# Altium schematic symbol library 生日礼物V2.SchLib: 21 symbols
Pins are listed as number, name and electrical type; pins without a type are passive.

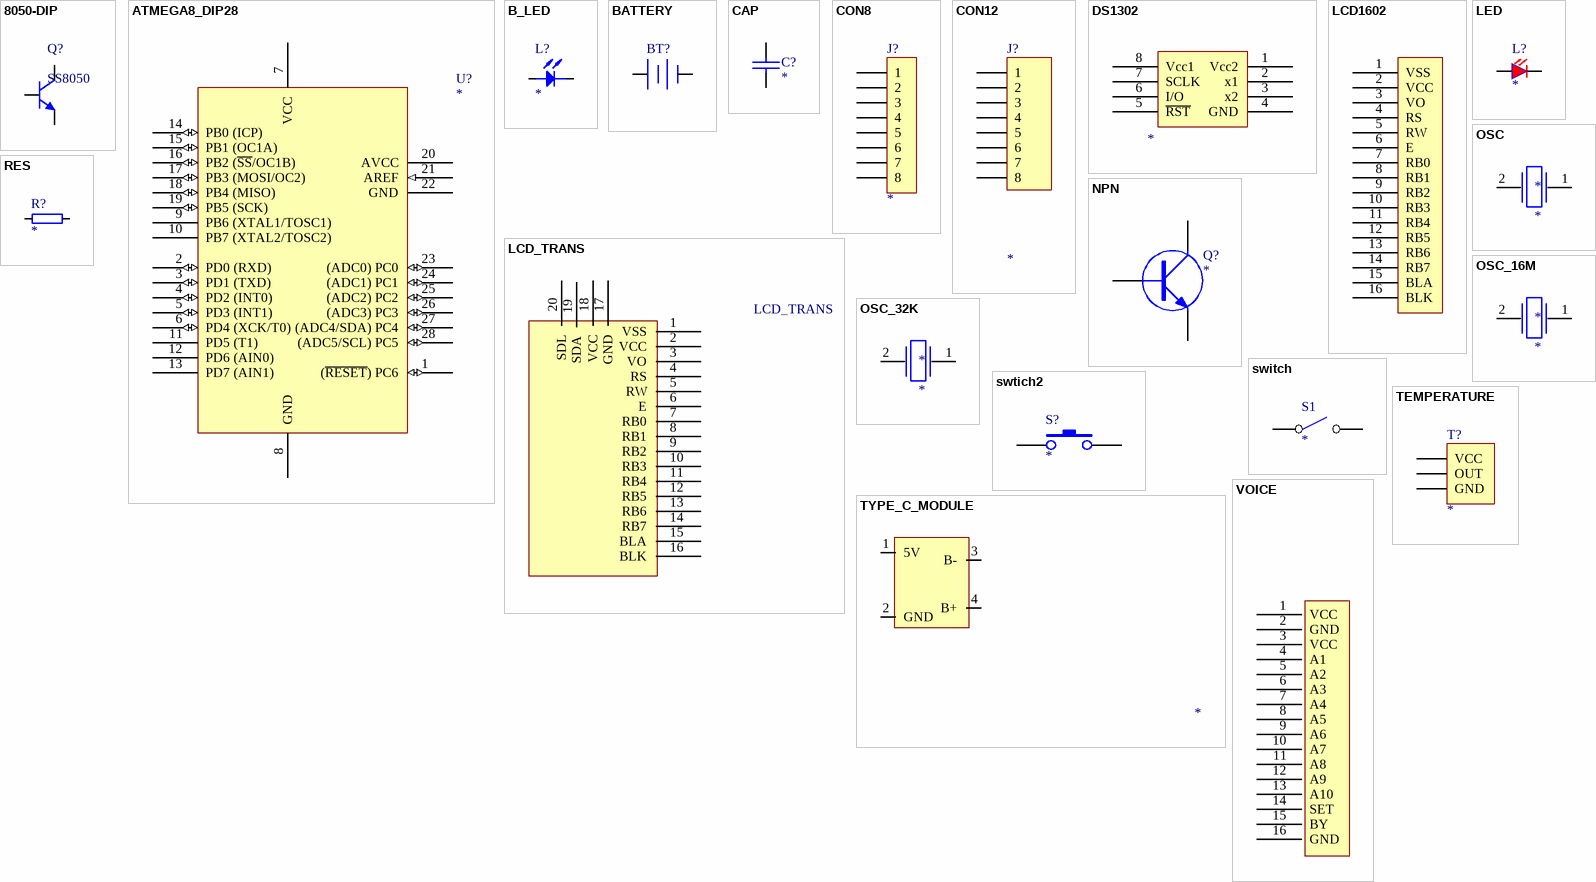
[diagram p0: symbols 8050-DIP to VOICE]

## 8050-DIP
designator Q?, comment SS8050
高频放大-NPN型; 版权归属: 源创客; 属性: 40V 1.5A 1W 100MHZ; BOM名称: 高频放大-NPN型; 学习资源: www.ooocke.com
footprint TO92
pins: 1 E, 2 B, 3 C

## ATMEGA8_DIP28
designator U?
Atmel Microcontroller - Library created by carel..  <www.mpfreezone.com>
footprint DIP28 (28脚300mil直插集成电路（蒜米工坊）)
pins: 1 (~{RESET}) PC6 (io), 2 PD0 (RXD) (io), 3 PD1 (TXD) (io), 4 PD2 (INT0) (io), 5 PD3 (INT1) (io), 6 PD4 (XCK/T0) (io), 7 VCC, 8 GND, 9 PB6 (XTAL1/TOSC1), 10 PB7 (XTAL2/TOSC2), 11 PD5 (T1), 12 PD6 (AIN0), 13 PD7 (AIN1), 14 PB0 (ICP) (io), 15 PB1 (OC1A) (io), 16 PB2 (~{SS}/OC1B) (io), 17 PB3 (MOSI/OC2) (io), 18 PB4 (MISO) (io), 19 PB5 (SCK) (io), 20 AVCC, 21 AREF (in), 22 GND, 23 (ADC0) PC0 (io), 24 (ADC1) PC1 (io), 25 (ADC2) PC2 (io), 26 (ADC3) PC3 (io), 27 (ADC4/SDA) PC4 (io), 28 (ADC5/SCL) PC5 (io)

## B_LED
designator L?
footprint LED 5MM-Y (黄色5mm直插LED)
pins: A, K

## BATTERY
designator BT?
Multicell Battery; Published: 24-Mar-1999; LatestRevisionDate: 17-Jul-2002; LatestRevisionNote: Re-released for DXP Platform.; PackageReference: BAT-2; Publisher: Altium Limited; ComponentLink1Description: New link; ComponentLink1URL: *
footprint CR2032_C
pins: 1 +, 2 -

## CAP
designator C?
footprint CAP (瓷片电容，脚距3mm)
pins: 1, 2

## CON8
designator J?
footprint CON8
pins: 1, 2, 3, 4, 5, 6, 7, 8

## CON12
designator J?
Connector
footprint CON12
pins: 1, 2, 3, 4, 5, 6, 7, 8

## DS1302
designator ?
footprint DIP8 (8脚300mil直插集成电路（蒜米工坊）)
pins: 1 Vcc2, 2 x1, 3 x2, 4 GND, 5 ~{RST}, 6 I/O, 7 SCLK, 8 Vcc1

## LCD1602
designator ?
footprint LCD-1602 (LCD module 16*2 char)
pins: 1 VSS, 2 VCC, 3 VO, 4 RS, 5 RW, 6 E, 7 RB0, 8 RB1, 9 RB2, 10 RB3, 11 RB4, 12 RB5, 13 RB6, 14 RB7, 15 BLA, 16 BLK

## LCD_TRANS
designator LCD_TRANS
footprint LCD-TRANS (LCD module 16*2 char)
pins: 1 VSS, 2 VCC, 3 VO, 4 RS, 5 RW, 6 E, 7 RB0, 8 RB1, 9 RB2, 10 RB3, 11 RB4, 12 RB5, 13 RB6, 14 RB7, 15 BLA, 16 BLK, 17 GND, 18 VCC, 19 SDA, 20 SDL

## LED
designator L?
footprint LED 5MM-Y (黄色5mm直插LED)
pins: 1 A, 2 K

## NPN
designator Q?
NPN Transistor
footprint TO92
pins: 1 E, 2 B, 3 C

## OSC
designator *
footprint OSC HC-49U
footprint OSC HC-49U
pins: 1, 2

## OSC_16M
designator *
footprint OSC HC-49U
footprint OSC HC-49U
pins: 1, 2

## OSC_32K
designator *
footprint osc_32.768K
pins: 1, 2

## RES
designator R?
footprint 0805R
footprint AXIAL0.4
footprint AXIAL0.5
pins: 1, 2

## switch
designator S1
footprint switch
pins: 1 IN, 2 OUT "2"

## swtich2
designator S?
footprint switch
pins: 1, 2

## TEMPERATURE
designator T?
温度传感器
footprint TEMP_SENSOR (排母，3脚)
pins: 1 VCC, 2 OUT, 3 GND

## TYPE_C_MODULE
designator ?
footprint TYPE_C_Module
footprint TYPE_C_Module
pins: 1 5V, 2 GND, 3 B-, 4 B+

## VOICE
designator ?
ComponentLink1Description: New link; ComponentLink1URL: *
footprint CON16 (VOICE)
pins: 1 VCC, 2 GND, 3 VCC, 4 A1, 5 A2, 6 A3, 7 A4, 8 A5, 9 A6, 10 A7, 11 A8, 12 A9, 13 A10, 14 SET, 15 BY, 16 GND